# Altium schematic symbol library KeyBaord_V0.1.SCHLIB: 13 symbols
Pins are listed as number, name and electrical type; pins without a type are passive.

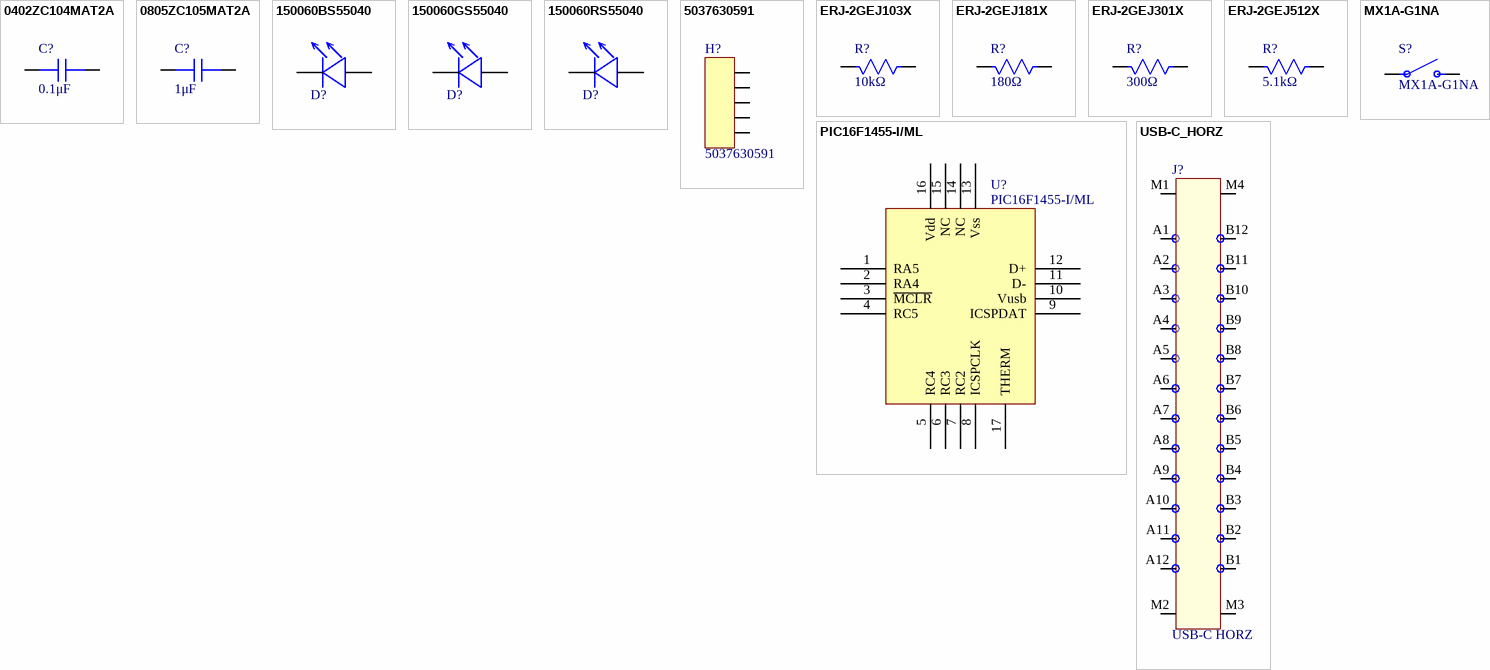
[diagram p0: symbols 0402ZC104MAT2A to USB-C_HORZ]

## 0402ZC104MAT2A
designator C?, comment 0.1μF
MLCC C0G 0402 10V 0.1μF 20%; MPN: 0402ZC104MAT2A; ID: 154; MAN: AVX; Case: 0402; Voltage: 10V; Capacitance: 0.1μF; Tolerance: 20%
footprint AVX_MLCC_X7R-0402C
pins: 1, 2

## 0805ZC105MAT2A
designator C?, comment 1μF
MLCC C0G 0805 10V 1μF 20%; MPN: 0805ZC105MAT2A; ID: 2348; MAN: AVX; Case: 0805; Voltage: 10V; Capacitance: 1μF; Tolerance: 20%
footprint AVX_MLCC_X7R-0805N
pins: 1, 2

## 150060BS55040
designator D?, comment 0603 Blue  (value not drawn)
Standard LEDs - SMD WL-SMCD SMD Mono SMD 0603 Blue 465nm; MPN: 150060BS55040; MAN: Wurth; Current: 20mA; Forward Voltage: 3.2V
footprint 150060BS55040 (0603)
pins: A, C

## 150060GS55040
designator D?, comment 0603 Green  (value not drawn)
Standard LEDs - SMD WL-SMCD SMD Mono SMD 0603 Green 520nm; MPN: 150060GS55040; MAN: Wurth; Current: 20mA; Forward Voltage: 3.2V
footprint 150060GS55040 (0603)
pins: A, C

## 150060RS55040
designator D?, comment 0603 Red  (value not drawn)
Standard LEDs - SMD WL-SMCD SMD MonoChip 0603 Red 632nm; MPN: 150060RS55040; MAN: Wurth; Current: 20mA; Forward Voltage: 2V
footprint 150060RS55040 (0603)
pins: A, C

## 5037630591
designator H?
Headers & Wire Housings 1MM PicoLock SMT HDR RA POD SIDELOCK 5CKT; MAN: Molex; MPN: 5037630591
footprint 5037630591
pins: 1, 2, 3, 4, 5

## ERJ-2GEJ103X
designator R?, comment 10kΩ
Thick Film Resistors - SMD 0402 10Kohms 5% AEC-Q200; MPN: ERJ-2GEJ103X; MAN: Panasonic; Wattage: 0.1W; ID: 9123; Resistance: 10kΩ; Case: 0402; Tolerance: 5%
footprint 0402_2GE
pins: 1, 2

## ERJ-2GEJ181X
designator R?, comment 180Ω
Thick Film Resistors - SMD 0402 180ohms 5% AEC-Q200; MPN: ERJ-2GEJ181X; MAN: Panasonic; Wattage: 0.1W; ID: 9159; Resistance: 180Ω; Case: 0402; Tolerance: 5%
footprint 0402_2GE
pins: 1, 2

## ERJ-2GEJ301X
designator R?, comment 300Ω
Thick Film Resistors - SMD 0402 300ohms 5% AEC-Q200; MPN: ERJ-2GEJ301X; MAN: Panasonic; Wattage: 0.1W; ID: 9202; Resistance: 300Ω; Case: 0402; Tolerance: 5%
footprint 0402_2GE
pins: 1, 2

## ERJ-2GEJ512X
designator R?, comment 5.1kΩ
Thick Film Resistors - SMD 0402 5.1Kohms 5% AEC-Q200; MPN: ERJ-2GEJ512X; MAN: Panasonic; Wattage: 0.1W; ID: 9247; Resistance: 5.1kΩ; Case: 0402; Tolerance: 5%
footprint 0402_2GE
pins: 1, 2

## MX1A-G1NA
designator S?
Pushbutton Switches MX RGB, Brown Stem, Full Travel Mechanical Keyswitch Soft click Feel, 55cN, clear housing No Diode Frame Mount (no fixation pins); MAN: CHERRY; MPN: MX1A-G1NA
footprint MX1A-G1NA
pins: 1, 2

## PIC16F1455-I/ML
designator U?
8-bit Microcontrollers - MCU 14KB Fl 1024B R 48MHz Int. Oc 12 I0; MAN: Microchip Technology; MPN: PIC16F1455-I/ML
footprint PIC16F1455-I/ML
pins: 1 RA5, 2 RA4, 3 ~{MCLR}, 4 RC5, 5 RC4, 6 RC3, 7 RC2, 8 ICSPCLK, 9 ICSPDAT, 10 Vusb, 11 D-, 12 D+, 13 Vss, 14 NC, 15 NC, 16 Vdd, 17 THERM

## USB-C_HORZ
designator J?, comment USB-C HORZ
CONN RCP USB3.1 TYPEC 24P SMD RA; MPN: 1054500101; MAN: Molex; Digi-Key Part Number: WM12856CT-ND
footprint Molex_USB-C HORZ (CONN USB TYPE C RT. ANGLE JACK)
pins: A1, A2, A3, A4, A5, A6, A7, A8, A9, A10, A11, A12, B1, B2, B3, B4, B5, B6, B7, B8, B9, B10, B11, B12, M1, M2, M3, M4